# EAGLE library part 74*7076 (library 74ttl-din)
J-K FLIP FLOP, INVERTER/NOR
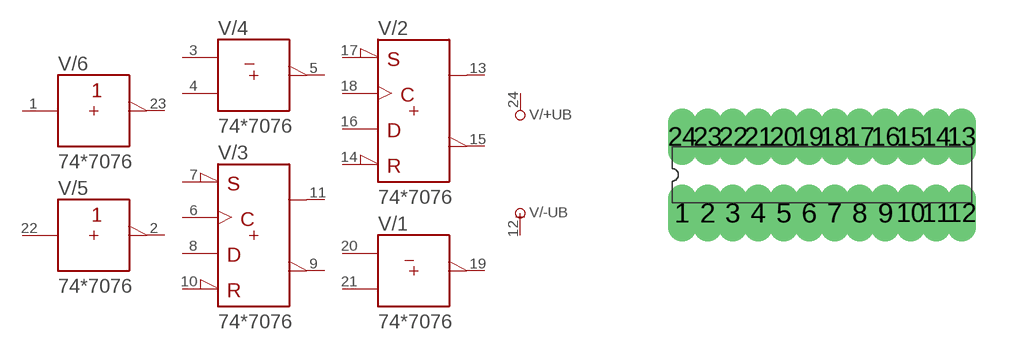
[diagram p161: symbol with the pads of DIL24-3; footprint DIL24-3]

Designator prefix V; gates /+UB=+UB /-UB=-UB /1=7076_6 /2=7076_5 /3=7076_4 /4=7076_3 /5=7076_2 /6=7076_1

## 747076N  [DIL24-3]
1  /6:A  in
2  /5:Y  out
3  /4:A  in
4  /4:B  in
5  /4:Y  out
6  /3:CLK  in
7  /3:!PRE  in
8  /3:D  in
9  /3:!Q  out
10  /3:!CLR  in
11  /3:Q  out
12  /-UB:-UB  pwr
13  /2:Q  out
14  /2:!CLR  in
15  /2:!Q  out
16  /2:D  in
17  /2:!PRE  in
18  /2:CLK  in
19  /1:Y  out
20  /1:A  in
21  /1:B  in
22  /5:A  in
23  /6:Y  out
24  /+UB:+UB  pwr

## Footprint DIL24-3 (pad centres in mm)
Dual In Line Package 0.3 inch
drill 0.203 long: 1 -3.493,-0.953; 2 -2.857,-0.953; 3 -2.223,-0.953; 4 -1.587,-0.953; 5 -0.953,-0.953; 6 -0.318,-0.953; 7 0.318,-0.953; 8 0.953,-0.953; 9 1.587,-0.953; 10 2.223,-0.953; 11 2.857,-0.953; 12 3.493,-0.953; 13 3.493,0.953; 14 2.857,0.953; 15 2.223,0.953; 16 1.587,0.953; 17 0.953,0.953; 18 0.318,0.953; 19 -0.318,0.953; 20 -0.953,0.953; 21 -1.587,0.953; 22 -2.223,0.953; 23 -2.857,0.953; 24 -3.493,0.953